# Altium schematic symbol library WE-FLEX.SchLib: 25 symbols
Pins are listed as number, name and electrical type; pins without a type are passive.

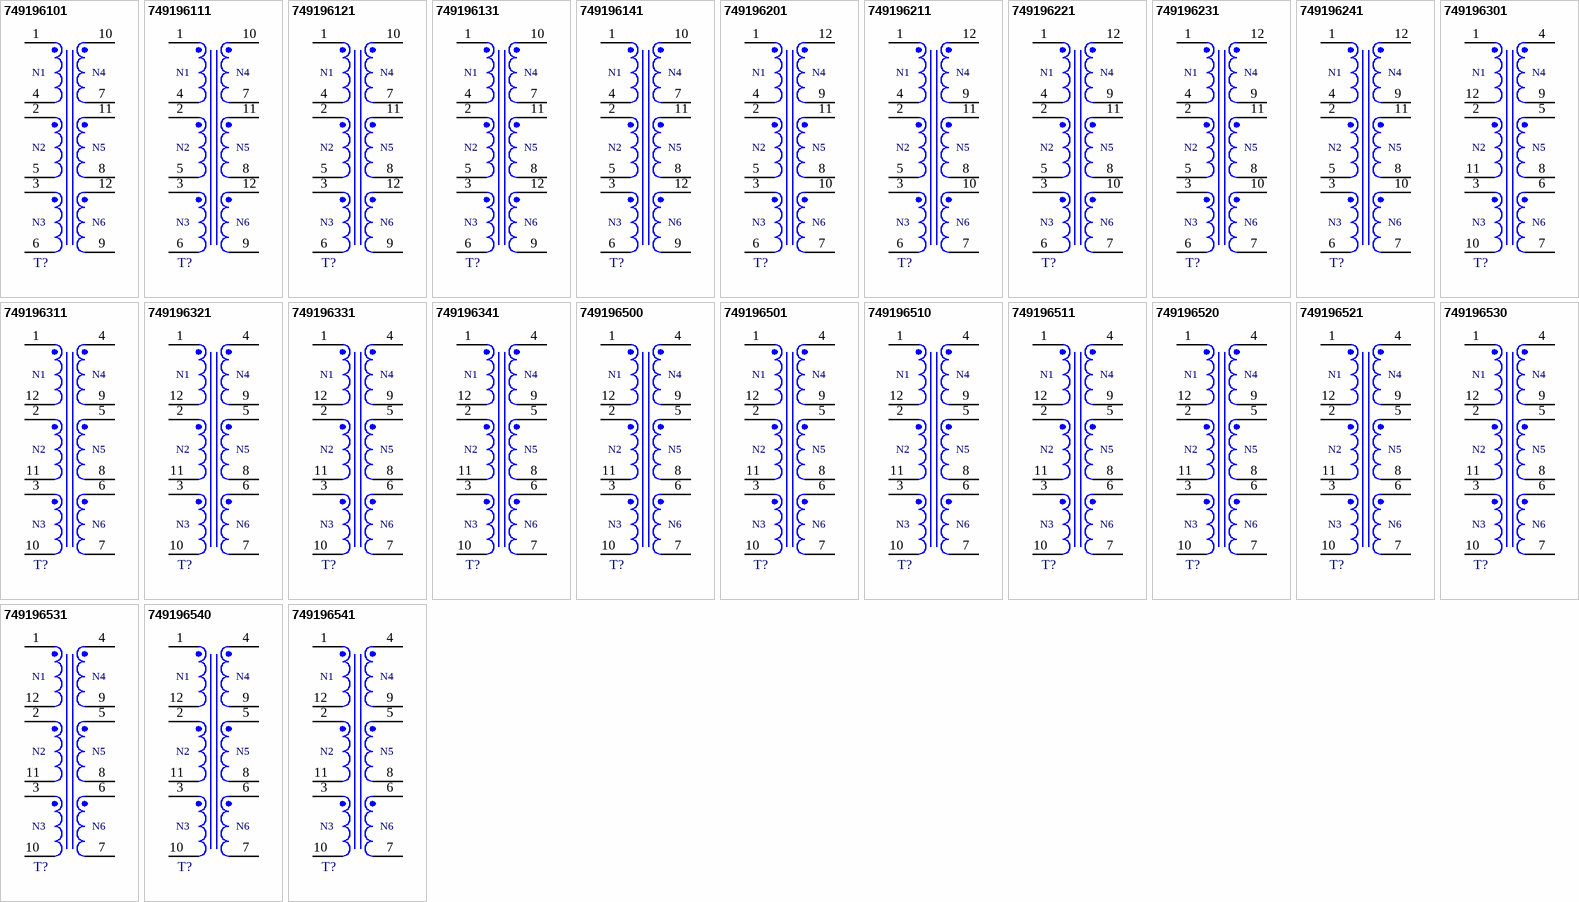
[diagram p0: symbols 749196101 to 749196541]

## 749196101
designator T?, comment 198.6uH, 0.55A  (value not drawn)
WE-FLEX SMT Flexible Transformer for DC/DC Converter, ER11/5, 198.6uH, 0.55A; Manufacturer Part Number: 749196101; Manufacturer: Wurth Elektronik; DC Resistance Base: 344mOhm; Insulation Test Voltage: 500VAC; Leakage Inductance Base: 1.2uH; Saturation Current Base: 0.01A; Turns Ratio: 1:1:1:1:1:1; Type: ungapped; Voltage-µSecond Base: 32.9uVs; Category: Flexible Transformers For SMPS; Match Code: WE-FLEX; ComponentLink1Description: Website Link; ComponentLink1URL: https://www.we-online.com/redexpert/article/749196101?ad; ComponentLink2Description: Datasheet Link; ComponentLink2URL: https://www.we-online.com/redexpert/spec/749196101?ad; Mount: Surface Mount; Operating Temperature Max: 125°C; Operating Temperature Min: -40°C; Packaging: Tape and Reel; Case/Size Code: ER11/5; Length: 12.9mm; Width: 9.2mm; Height: 6.2mm; Inductance Base: 198.6uH; Rated Current Base: 0.55A
footprint WE-FLEX_ER11/5
pins: 1, 2, 3, 4, 5, 6, 7, 8, 9, 10, 11, 12
text: N1; N4; N2; N5; N3; N6

## 749196111
designator T?, comment 27.4uH, 0.55A  (value not drawn)
WE-FLEX SMT Flexible Transformer for DC/DC Converter, ER11/5, 27.4uH, 0.55A; Manufacturer Part Number: 749196111; Manufacturer: Wurth Elektronik; DC Resistance Base: 344mOhm; Insulation Test Voltage: 500VAC; Leakage Inductance Base: 1.2uH; Saturation Current Base: 0.22A; Turns Ratio: 1:1:1:1:1:1; Type: gapped; Voltage-µSecond Base: 32.9uVs; Category: Flexible Transformers For SMPS; Match Code: WE-FLEX; ComponentLink1Description: Website Link; ComponentLink1URL: https://www.we-online.com/redexpert/article/749196111?ad; ComponentLink2Description: Datasheet Link; ComponentLink2URL: https://www.we-online.com/redexpert/spec/749196111?ad; Mount: Surface Mount; Operating Temperature Max: 125°C; Operating Temperature Min: -40°C; Packaging: Tape and Reel; Case/Size Code: ER11/5; Length: 12.9mm; Width: 9.2mm; Height: 6.2mm; Inductance Base: 27.4uH; Rated Current Base: 0.55A
footprint WE-FLEX_ER11/5
pins: 1, 2, 3, 4, 5, 6, 7, 8, 9, 10, 11, 12
text: N1; N4; N2; N5; N3; N6

## 749196121
designator T?, comment 14.7uH, 0.55A  (value not drawn)
WE-FLEX SMT Flexible Transformer for DC/DC Converter, ER11/5, 14.7uH, 0.55A; Manufacturer Part Number: 749196121; Manufacturer: Wurth Elektronik; DC Resistance Base: 344mOhm; Insulation Test Voltage: 500VAC; Leakage Inductance Base: 1.2uH; Saturation Current Base: 0.54A; Turns Ratio: 1:1:1:1:1:1; Type: gapped; Voltage-µSecond Base: 32.9uVs; Category: Flexible Transformers For SMPS; Match Code: WE-FLEX; ComponentLink1Description: Website Link; ComponentLink1URL: https://www.we-online.com/redexpert/article/749196121?ad; ComponentLink2Description: Datasheet Link; ComponentLink2URL: https://www.we-online.com/redexpert/spec/749196121?ad; Mount: Surface Mount; Operating Temperature Max: 125°C; Operating Temperature Min: -40°C; Packaging: Tape and Reel; Case/Size Code: ER11/5; Length: 12.9mm; Width: 9.2mm; Height: 6.2mm; Inductance Base: 14.7uH; Rated Current Base: 0.55A
footprint WE-FLEX_ER11/5
pins: 1, 2, 3, 4, 5, 6, 7, 8, 9, 10, 11, 12
text: N1; N4; N2; N5; N3; N6

## 749196131
designator T?, comment 10.9uH, 0.55A  (value not drawn)
WE-FLEX SMT Flexible Transformer for DC/DC Converter, ER11/5, 10.9uH, 0.55A; Manufacturer Part Number: 749196131; Manufacturer: Wurth Elektronik; DC Resistance Base: 344mOhm; Insulation Test Voltage: 500VAC; Leakage Inductance Base: 1.2uH; Saturation Current Base: 0.73A; Turns Ratio: 1:1:1:1:1:1; Type: gapped; Voltage-µSecond Base: 32.9uVs; Category: Flexible Transformers For SMPS; Match Code: WE-FLEX; ComponentLink1Description: Website Link; ComponentLink1URL: https://www.we-online.com/redexpert/article/749196131?ad; ComponentLink2Description: Datasheet Link; ComponentLink2URL: https://www.we-online.com/redexpert/spec/749196131?ad; Mount: Surface Mount; Operating Temperature Max: 125°C; Operating Temperature Min: -40°C; Packaging: Tape and Reel; Case/Size Code: ER11/5; Length: 12.9mm; Width: 9.2mm; Height: 6.2mm; Inductance Base: 10.9uH; Rated Current Base: 0.55A
footprint WE-FLEX_ER11/5
pins: 1, 2, 3, 4, 5, 6, 7, 8, 9, 10, 11, 12
text: N1; N4; N2; N5; N3; N6

## 749196141
designator T?, comment 8.5uH, 0.55A  (value not drawn)
WE-FLEX SMT Flexible Transformer for DC/DC Converter, ER11/5, 8.5uH, 0.55A; Manufacturer Part Number: 749196141; Manufacturer: Wurth Elektronik; DC Resistance Base: 344mOhm; Insulation Test Voltage: 500VAC; Leakage Inductance Base: 1.2uH; Saturation Current Base: 0.96A; Turns Ratio: 1:1:1:1:1:1; Type: gapped; Voltage-µSecond Base: 32.9uVs; Category: Flexible Transformers For SMPS; Match Code: WE-FLEX; ComponentLink1Description: Website Link; ComponentLink1URL: https://www.we-online.com/redexpert/article/749196141?ad; ComponentLink2Description: Datasheet Link; ComponentLink2URL: https://www.we-online.com/redexpert/spec/749196141?ad; Mount: Surface Mount; Operating Temperature Max: 125°C; Operating Temperature Min: -40°C; Packaging: Tape and Reel; Case/Size Code: ER11/5; Length: 12.9mm; Width: 9.2mm; Height: 6.2mm; Inductance Base: 8.5uH; Rated Current Base: 0.55A
footprint WE-FLEX_ER11/5
pins: 1, 2, 3, 4, 5, 6, 7, 8, 9, 10, 11, 12
text: N1; N4; N2; N5; N3; N6

## 749196201
designator T?, comment 140uH, 0.95A  (value not drawn)
WE-FLEX SMT Flexible Transformer for DC/DC Converter, ER14.5/6, 140uH, 0.95A; Manufacturer Part Number: 749196201; Manufacturer: Wurth Elektronik; DC Resistance Base: 159mOhm; Insulation Test Voltage: 500VAC; Leakage Inductance Base: 1.2uH; Saturation Current Base: 0.02A; Turns Ratio: 1:1:1:1:1:1; Type: ungapped; Voltage-µSecond Base: 48.3uVs; Category: Flexible Transformers For SMPS; Match Code: WE-FLEX; ComponentLink1Description: Website Link; ComponentLink1URL: https://www.we-online.com/redexpert/article/749196201?ad; ComponentLink2Description: Datasheet Link; ComponentLink2URL: https://www.we-online.com/redexpert/spec/749196201?ad; Mount: Surface Mount; Operating Temperature Max: 125°C; Operating Temperature Min: -40°C; Packaging: Tape and Reel; Case/Size Code: ER14.5/6; Length: 16.3mm; Width: 12mm; Height: 7.4mm; Inductance Base: 140uH; Rated Current Base: 0.95A
footprint WE-FLEX_ER14.5/6
pins: 1, 2, 3, 4, 5, 6, 7, 8, 9, 10, 11, 12
text: N1; N4; N2; N5; N3; N6

## 749196211
designator T?, comment 21.6uH, 0.95A  (value not drawn)
WE-FLEX SMT Flexible Transformer for DC/DC Converter, ER14.5/6, 21.6uH, 0.95A; Manufacturer Part Number: 749196211; Manufacturer: Wurth Elektronik; DC Resistance Base: 159mOhm; Insulation Test Voltage: 500VAC; Leakage Inductance Base: 1.2uH; Saturation Current Base: 0.36A; Turns Ratio: 1:1:1:1:1:1; Type: gapped; Voltage-µSecond Base: 48.3uVs; Category: Flexible Transformers For SMPS; Match Code: WE-FLEX; ComponentLink1Description: Website Link; ComponentLink1URL: https://www.we-online.com/redexpert/article/749196211?ad; ComponentLink2Description: Datasheet Link; ComponentLink2URL: https://www.we-online.com/redexpert/spec/749196211?ad; Mount: Surface Mount; Operating Temperature Max: 125°C; Operating Temperature Min: -40°C; Packaging: Tape and Reel; Case/Size Code: ER14.5/6; Length: 16.3mm; Width: 12mm; Height: 7.4mm; Inductance Base: 21.6uH; Rated Current Base: 0.95A
footprint WE-FLEX_ER14.5/6
pins: 1, 2, 3, 4, 5, 6, 7, 8, 9, 10, 11, 12
text: N1; N4; N2; N5; N3; N6

## 749196221
designator T?, comment 11.6uH, 0.95A  (value not drawn)
WE-FLEX SMT Flexible Transformer for DC/DC Converter, ER14.5/6, 11.6uH, 0.95A; Manufacturer Part Number: 749196221; Manufacturer: Wurth Elektronik; DC Resistance Base: 159mOhm; Insulation Test Voltage: 500VAC; Leakage Inductance Base: 1.2uH; Saturation Current Base: 0.84A; Turns Ratio: 1:1:1:1:1:1; Type: gapped; Voltage-µSecond Base: 48.3uVs; Category: Flexible Transformers For SMPS; Match Code: WE-FLEX; ComponentLink1Description: Website Link; ComponentLink1URL: https://www.we-online.com/redexpert/article/749196221?ad; ComponentLink2Description: Datasheet Link; ComponentLink2URL: https://www.we-online.com/redexpert/spec/749196221?ad; Mount: Surface Mount; Operating Temperature Max: 125°C; Operating Temperature Min: -40°C; Packaging: Tape and Reel; Case/Size Code: ER14.5/6; Length: 16.3mm; Width: 12mm; Height: 7.4mm; Inductance Base: 11.6uH; Rated Current Base: 0.95A
footprint WE-FLEX_ER14.5/6
pins: 1, 2, 3, 4, 5, 6, 7, 8, 9, 10, 11, 12
text: N1; N4; N2; N5; N3; N6

## 749196231
designator T?, comment 8.3uH, 0.95A  (value not drawn)
WE-FLEX SMT Flexible Transformer for DC/DC Converter, ER14.5/6, 8.3uH, 0.95A; Manufacturer Part Number: 749196231; Manufacturer: Wurth Elektronik; DC Resistance Base: 159mOhm; Insulation Test Voltage: 500VAC; Leakage Inductance Base: 1.2uH; Saturation Current Base: 1.2A; Turns Ratio: 1:1:1:1:1:1; Type: gapped; Voltage-µSecond Base: 48.3uVs; Category: Flexible Transformers For SMPS; Match Code: WE-FLEX; ComponentLink1Description: Website Link; ComponentLink1URL: https://www.we-online.com/redexpert/article/749196231?ad; ComponentLink2Description: Datasheet Link; ComponentLink2URL: https://www.we-online.com/redexpert/spec/749196231?ad; Mount: Surface Mount; Operating Temperature Max: 125°C; Operating Temperature Min: -40°C; Packaging: Tape and Reel; Case/Size Code: ER14.5/6; Length: 16.3mm; Width: 12mm; Height: 7.4mm; Inductance Base: 8.3uH; Rated Current Base: 0.95A
footprint WE-FLEX_ER14.5/6
pins: 1, 2, 3, 4, 5, 6, 7, 8, 9, 10, 11, 12
text: N1; N4; N2; N5; N3; N6

## 749196241
designator T?, comment 6.6uH, 0.95A  (value not drawn)
WE-FLEX SMT Flexible Transformer for DC/DC Converter, ER14.5/6, 6.6uH, 0.95A; Manufacturer Part Number: 749196241; Manufacturer: Wurth Elektronik; DC Resistance Base: 159mOhm; Insulation Test Voltage: 500VAC; Leakage Inductance Base: 1.2uH; Saturation Current Base: 1.55A; Turns Ratio: 1:1:1:1:1:1; Type: gapped; Voltage-µSecond Base: 48.3uVs; Category: Flexible Transformers For SMPS; Match Code: WE-FLEX; ComponentLink1Description: Website Link; ComponentLink1URL: https://www.we-online.com/redexpert/article/749196241?ad; ComponentLink2Description: Datasheet Link; ComponentLink2URL: https://www.we-online.com/redexpert/spec/749196241?ad; Mount: Surface Mount; Operating Temperature Max: 125°C; Operating Temperature Min: -40°C; Packaging: Tape and Reel; Case/Size Code: ER14.5/6; Length: 16.3mm; Width: 12mm; Height: 7.4mm; Inductance Base: 6.6uH; Rated Current Base: 0.95A
footprint WE-FLEX_ER14.5/6
pins: 1, 2, 3, 4, 5, 6, 7, 8, 9, 10, 11, 12
text: N1; N4; N2; N5; N3; N6

## 749196301
designator T?, comment 153.8uH, 0.97A  (value not drawn)
WE-FLEX SMT Flexible Transformer for DC/DC Converter, EFD15, 153.8uH, 0.97A; Manufacturer Part Number: 749196301; Manufacturer: Wurth Elektronik; DC Resistance Base: 140mOhm; Insulation Test Voltage: 500VAC; Leakage Inductance Base: 0.13uH; Saturation Current Base: 0.02A; Turns Ratio: 1:1:1:1:1:1; Type: ungapped; Voltage-µSecond Base: 39.8uVs; Category: Flexible Transformers For SMPS; Match Code: WE-FLEX; ComponentLink1Description: Website Link; ComponentLink1URL: https://www.we-online.com/redexpert/article/749196301?ad; ComponentLink2Description: Datasheet Link; ComponentLink2URL: https://www.we-online.com/redexpert/spec/749196301?ad; Mount: Surface Mount; Operating Temperature Max: 125°C; Operating Temperature Min: -40°C; Packaging: Tape and Reel; Case/Size Code: EFD15; Length: 17.5mm; Width: 16mm; Height: 8.3mm; Inductance Base: 153.8uH; Rated Current Base: 0.97A
footprint WE-FLEX_EFD15
pins: 1, 2, 3, 4, 5, 6, 7, 8, 9, 10, 11, 12
text: N1; N4; N2; N5; N3; N6

## 749196311
designator T?, comment 23.3uH, 0.97A  (value not drawn)
WE-FLEX SMT Flexible Transformer for DC/DC Converter, EFD15, 23.3uH, 0.97A; Manufacturer Part Number: 749196311; Manufacturer: Wurth Elektronik; DC Resistance Base: 140mOhm; Insulation Test Voltage: 500VAC; Leakage Inductance Base: 0.13uH; Saturation Current Base: 0.33A; Turns Ratio: 1:1:1:1:1:1; Type: gapped; Voltage-µSecond Base: 39.8uVs; Category: Flexible Transformers For SMPS; Match Code: WE-FLEX; ComponentLink1Description: Website Link; ComponentLink1URL: https://www.we-online.com/redexpert/article/749196311?ad; ComponentLink2Description: Datasheet Link; ComponentLink2URL: https://www.we-online.com/redexpert/spec/749196311?ad; Mount: Surface Mount; Operating Temperature Max: 125°C; Operating Temperature Min: -40°C; Packaging: Tape and Reel; Case/Size Code: EFD15; Length: 17.5mm; Width: 16mm; Height: 8.3mm; Inductance Base: 23.3uH; Rated Current Base: 0.97A
footprint WE-FLEX_EFD15
pins: 1, 2, 3, 4, 5, 6, 7, 8, 9, 10, 11, 12
text: N1; N4; N2; N5; N3; N6

## 749196321
designator T?, comment 14.2uH, 0.97A  (value not drawn)
WE-FLEX SMT Flexible Transformer for DC/DC Converter, EFD15, 14.2uH, 0.97A; Manufacturer Part Number: 749196321; Manufacturer: Wurth Elektronik; DC Resistance Base: 140mOhm; Insulation Test Voltage: 500VAC; Leakage Inductance Base: 0.13uH; Saturation Current Base: 0.63A; Turns Ratio: 1:1:1:1:1:1; Type: gapped; Voltage-µSecond Base: 39.8uVs; Category: Flexible Transformers For SMPS; Match Code: WE-FLEX; ComponentLink1Description: Website Link; ComponentLink1URL: https://www.we-online.com/redexpert/article/749196321?ad; ComponentLink2Description: Datasheet Link; ComponentLink2URL: https://www.we-online.com/redexpert/spec/749196321?ad; Mount: Surface Mount; Operating Temperature Max: 125°C; Operating Temperature Min: -40°C; Packaging: Tape and Reel; Case/Size Code: EFD15; Length: 17.5mm; Width: 16mm; Height: 8.3mm; Inductance Base: 14.2uH; Rated Current Base: 0.97A
footprint WE-FLEX_EFD15
pins: 1, 2, 3, 4, 5, 6, 7, 8, 9, 10, 11, 12
text: N1; N4; N2; N5; N3; N6

## 749196331
designator T?, comment 9.3uH, 0.97A  (value not drawn)
WE-FLEX SMT Flexible Transformer for DC/DC Converter, EFD15, 9.3uH, 0.97A; Manufacturer Part Number: 749196331; Manufacturer: Wurth Elektronik; DC Resistance Base: 140mOhm; Insulation Test Voltage: 500VAC; Leakage Inductance Base: 0.13uH; Saturation Current Base: 1.09A; Turns Ratio: 1:1:1:1:1:1; Type: gapped; Voltage-µSecond Base: 39.8uVs; Category: Flexible Transformers For SMPS; Match Code: WE-FLEX; ComponentLink1Description: Website Link; ComponentLink1URL: https://www.we-online.com/redexpert/article/749196331?ad; ComponentLink2Description: Datasheet Link; ComponentLink2URL: https://www.we-online.com/redexpert/spec/749196331?ad; Mount: Surface Mount; Operating Temperature Max: 125°C; Operating Temperature Min: -40°C; Packaging: Tape and Reel; Case/Size Code: EFD15; Length: 17.5mm; Width: 16mm; Height: 8.3mm; Inductance Base: 9.3uH; Rated Current Base: 0.97A
footprint WE-FLEX_EFD15
pins: 1, 2, 3, 4, 5, 6, 7, 8, 9, 10, 11, 12
text: N1; N4; N2; N5; N3; N6

## 749196341
designator T?, comment 7.9uH, 0.97A  (value not drawn)
WE-FLEX SMT Flexible Transformer for DC/DC Converter, EFD15, 7.9uH, 0.97A; Manufacturer Part Number: 749196341; Manufacturer: Wurth Elektronik; DC Resistance Base: 140mOhm; Insulation Test Voltage: 500VAC; Leakage Inductance Base: 0.13uH; Saturation Current Base: 1.33A; Turns Ratio: 1:1:1:1:1:1; Type: gapped; Voltage-µSecond Base: 39.8uVs; Category: Flexible Transformers For SMPS; Match Code: WE-FLEX; ComponentLink1Description: Website Link; ComponentLink1URL: https://www.we-online.com/redexpert/article/749196341?ad; ComponentLink2Description: Datasheet Link; ComponentLink2URL: https://www.we-online.com/redexpert/spec/749196341?ad; Mount: Surface Mount; Operating Temperature Max: 125°C; Operating Temperature Min: -40°C; Packaging: Tape and Reel; Case/Size Code: EFD15; Length: 17.5mm; Width: 16mm; Height: 8.3mm; Inductance Base: 7.9uH; Rated Current Base: 0.97A
footprint WE-FLEX_EFD15
pins: 1, 2, 3, 4, 5, 6, 7, 8, 9, 10, 11, 12
text: N1; N4; N2; N5; N3; N6

## 749196500
designator T?, comment 87.1uH, 1.91A  (value not drawn)
WE-FLEX SMT Flexible Transformer for DC/DC Converter, EFD20, 87.1uH, 1.91A; Manufacturer Part Number: 749196500; Manufacturer: Wurth Elektronik; DC Resistance Base: 30mOhm; Insulation Test Voltage: 500VAC; Leakage Inductance Base: 0.18uH; Saturation Current Base: 0.03A; Turns Ratio: 1:1:1:1:1:1; Type: ungapped; Voltage-µSecond Base: 65.6uVs; Category: Flexible Transformers For SMPS; Match Code: WE-FLEX; ComponentLink1Description: Website Link; ComponentLink1URL: https://www.we-online.com/redexpert/article/749196500?ad; ComponentLink2Description: Datasheet Link; ComponentLink2URL: https://www.we-online.com/redexpert/spec/749196500?ad; Mount: Surface Mount; Operating Temperature Max: 125°C; Operating Temperature Min: -40°C; Packaging: Tape and Reel; Case/Size Code: EFD20; Length: 21mm; Width: 21mm; Height: 10.8mm; Inductance Base: 87.1uH; Rated Current Base: 1.91A
footprint WE-FLEX_EFD20
pins: 1, 2, 3, 4, 5, 6, 7, 8, 9, 10, 11, 12
text: N1; N4; N2; N5; N3; N6

## 749196501
designator T?, comment 196uH, 1.7A  (value not drawn)
WE-FLEX SMT Flexible Transformer for DC/DC Converter, EFD20, 196uH, 1.7A; Manufacturer Part Number: 749196501; Manufacturer: Wurth Elektronik; DC Resistance Base: 71.1mOhm; Insulation Test Voltage: 500VAC; Leakage Inductance Base: 0.24uH; Saturation Current Base: 0.02A; Turns Ratio: 1:1:1:1:1:1; Type: ungapped; Voltage-µSecond Base: 98.4uVs; Category: Flexible Transformers For SMPS; Match Code: WE-FLEX; ComponentLink1Description: Website Link; ComponentLink1URL: https://www.we-online.com/redexpert/article/749196501?ad; ComponentLink2Description: Datasheet Link; ComponentLink2URL: https://www.we-online.com/redexpert/spec/749196501?ad; Mount: Surface Mount; Operating Temperature Max: 125°C; Operating Temperature Min: -40°C; Packaging: Tape and Reel; Case/Size Code: EFD20; Length: 21mm; Width: 21mm; Height: 10.8mm; Inductance Base: 196uH; Rated Current Base: 1.7A
footprint WE-FLEX_EFD20
pins: 1, 2, 3, 4, 5, 6, 7, 8, 9, 10, 11, 12
text: N1; N4; N2; N5; N3; N6

## 749196510
designator T?, comment 9.9uH, 1.91A  (value not drawn)
WE-FLEX SMT Flexible Transformer for DC/DC Converter, EFD20, 9.9uH, 1.91A; Manufacturer Part Number: 749196510; Manufacturer: Wurth Elektronik; DC Resistance Base: 30mOhm; Insulation Test Voltage: 500VAC; Leakage Inductance Base: 0.18uH; Saturation Current Base: 1.17A; Turns Ratio: 1:1:1:1:1:1; Type: gapped; Voltage-µSecond Base: 65.6uVs; Category: Flexible Transformers For SMPS; Match Code: WE-FLEX; ComponentLink1Description: Website Link; ComponentLink1URL: https://www.we-online.com/redexpert/article/749196510?ad; ComponentLink2Description: Datasheet Link; ComponentLink2URL: https://www.we-online.com/redexpert/spec/749196510?ad; Mount: Surface Mount; Operating Temperature Max: 125°C; Operating Temperature Min: -40°C; Packaging: Tape and Reel; Case/Size Code: EFD20; Length: 21mm; Width: 21mm; Height: 10.8mm; Inductance Base: 9.9uH; Rated Current Base: 1.91A
footprint WE-FLEX_EFD20
pins: 1, 2, 3, 4, 5, 6, 7, 8, 9, 10, 11, 12
text: N1; N4; N2; N5; N3; N6

## 749196511
designator T?, comment 22.3uH, 1.7A  (value not drawn)
WE-FLEX SMT Flexible Transformer for DC/DC Converter, EFD20, 22.3uH, 1.7A; Manufacturer Part Number: 749196511; Manufacturer: Wurth Elektronik; DC Resistance Base: 71.1mOhm; Insulation Test Voltage: 500VAC; Leakage Inductance Base: 0.24uH; Saturation Current Base: 0.49A; Turns Ratio: 1:1:1:1:1:1; Type: gapped; Voltage-µSecond Base: 98.4uVs; Category: Flexible Transformers For SMPS; Match Code: WE-FLEX; ComponentLink1Description: Website Link; ComponentLink1URL: https://www.we-online.com/redexpert/article/749196511?ad; ComponentLink2Description: Datasheet Link; ComponentLink2URL: https://www.we-online.com/redexpert/spec/749196511?ad; Mount: Surface Mount; Operating Temperature Max: 125°C; Operating Temperature Min: -40°C; Packaging: Tape and Reel; Case/Size Code: EFD20; Length: 21mm; Width: 21mm; Height: 10.8mm; Inductance Base: 22.3uH; Rated Current Base: 1.7A
footprint WE-FLEX_EFD20
pins: 1, 2, 3, 4, 5, 6, 7, 8, 9, 10, 11, 12
text: N1; N4; N2; N5; N3; N6

## 749196520
designator T?, comment 5.3uH, 1.91A  (value not drawn)
WE-FLEX SMT Flexible Transformer for DC/DC Converter, EFD20, 5.3uH, 1.91A; Manufacturer Part Number: 749196520; Manufacturer: Wurth Elektronik; DC Resistance Base: 30mOhm; Insulation Test Voltage: 500VAC; Leakage Inductance Base: 0.18uH; Saturation Current Base: 2.53A; Turns Ratio: 1:1:1:1:1:1; Type: gapped; Voltage-µSecond Base: 65.6uVs; Category: Flexible Transformers For SMPS; Match Code: WE-FLEX; ComponentLink1Description: Website Link; ComponentLink1URL: https://www.we-online.com/redexpert/article/749196520?ad; ComponentLink2Description: Datasheet Link; ComponentLink2URL: https://www.we-online.com/redexpert/spec/749196520?ad; Mount: Surface Mount; Operating Temperature Max: 125°C; Operating Temperature Min: -40°C; Packaging: Tape and Reel; Case/Size Code: EFD20; Length: 21mm; Width: 21mm; Height: 10.8mm; Inductance Base: 5.3uH; Rated Current Base: 1.91A
footprint WE-FLEX_EFD20
pins: 1, 2, 3, 4, 5, 6, 7, 8, 9, 10, 11, 12
text: N1; N4; N2; N5; N3; N6

## 749196521
designator T?, comment 12uH, 1.7A  (value not drawn)
WE-FLEX SMT Flexible Transformer for DC/DC Converter, EFD20, 12uH, 1.7A; Manufacturer Part Number: 749196521; Manufacturer: Wurth Elektronik; DC Resistance Base: 71.1mOhm; Insulation Test Voltage: 500VAC; Leakage Inductance Base: 0.24uH; Saturation Current Base: 1.73A; Turns Ratio: 1:1:1:1:1:1; Type: gapped; Voltage-µSecond Base: 98.4uVs; Category: Flexible Transformers For SMPS; Match Code: WE-FLEX; ComponentLink1Description: Website Link; ComponentLink1URL: https://www.we-online.com/redexpert/article/749196521?ad; ComponentLink2Description: Datasheet Link; ComponentLink2URL: https://www.we-online.com/redexpert/spec/749196521?ad; Mount: Surface Mount; Operating Temperature Max: 125°C; Operating Temperature Min: -40°C; Packaging: Tape and Reel; Case/Size Code: EFD20; Length: 21mm; Width: 21mm; Height: 10.8mm; Inductance Base: 12uH; Rated Current Base: 1.7A
footprint WE-FLEX_EFD20
pins: 1, 2, 3, 4, 5, 6, 7, 8, 9, 10, 11, 12
text: N1; N4; N2; N5; N3; N6

## 749196530
designator T?, comment 4.3uH, 1.91A  (value not drawn)
WE-FLEX SMT Flexible Transformer for DC/DC Converter, EFD20, 4.3uH, 1.91A; Manufacturer Part Number: 749196530; Manufacturer: Wurth Elektronik; DC Resistance Base: 30mOhm; Insulation Test Voltage: 500VAC; Leakage Inductance Base: 0.18uH; Saturation Current Base: 2.91A; Turns Ratio: 1:1:1:1:1:1; Type: gapped; Voltage-µSecond Base: 65.6uVs; Category: Flexible Transformers For SMPS; Match Code: WE-FLEX; ComponentLink1Description: Website Link; ComponentLink1URL: https://www.we-online.com/redexpert/article/749196530?ad; ComponentLink2Description: Datasheet Link; ComponentLink2URL: https://www.we-online.com/redexpert/spec/749196530?ad; Mount: Surface Mount; Operating Temperature Max: 125°C; Operating Temperature Min: -40°C; Packaging: Tape and Reel; Case/Size Code: EFD20; Length: 21mm; Width: 21mm; Height: 10.8mm; Inductance Base: 4.3uH; Rated Current Base: 1.91A
footprint WE-FLEX_EFD20
pins: 1, 2, 3, 4, 5, 6, 7, 8, 9, 10, 11, 12
text: N1; N4; N2; N5; N3; N6

## 749196531
designator T?, comment 9.7uH, 1.7A  (value not drawn)
WE-FLEX SMT Flexible Transformer for DC/DC Converter, EFD20, 9.7uH, 1.7A; Manufacturer Part Number: 749196531; Manufacturer: Wurth Elektronik; DC Resistance Base: 71.1mOhm; Insulation Test Voltage: 500VAC; Leakage Inductance Base: 0.24uH; Saturation Current Base: 2.2A; Turns Ratio: 1:1:1:1:1:1; Type: gapped; Voltage-µSecond Base: 98.4uVs; Category: Flexible Transformers For SMPS; Match Code: WE-FLEX; ComponentLink1Description: Website Link; ComponentLink1URL: https://www.we-online.com/redexpert/article/749196531?ad; ComponentLink2Description: Datasheet Link; ComponentLink2URL: https://www.we-online.com/redexpert/spec/749196531?ad; Mount: Surface Mount; Operating Temperature Max: 125°C; Operating Temperature Min: -40°C; Packaging: Tape and Reel; Case/Size Code: EFD20; Length: 21mm; Width: 21mm; Height: 10.8mm; Inductance Base: 9.7uH; Rated Current Base: 1.7A
footprint WE-FLEX_EFD20
pins: 1, 2, 3, 4, 5, 6, 7, 8, 9, 10, 11, 12
text: N1; N4; N2; N5; N3; N6

## 749196540
designator T?, comment 3.4uH, 1.91A  (value not drawn)
WE-FLEX SMT Flexible Transformer for DC/DC Converter, EFD20, 3.4uH, 1.91A; Manufacturer Part Number: 749196540; Manufacturer: Wurth Elektronik; DC Resistance Base: 30mOhm; Insulation Test Voltage: 500VAC; Leakage Inductance Base: 0.18uH; Saturation Current Base: 4.18A; Turns Ratio: 1:1:1:1:1:1; Type: gapped; Voltage-µSecond Base: 65.6uVs; Category: Flexible Transformers For SMPS; Match Code: WE-FLEX; ComponentLink1Description: Website Link; ComponentLink1URL: https://www.we-online.com/redexpert/article/749196540?ad; ComponentLink2Description: Datasheet Link; ComponentLink2URL: https://www.we-online.com/redexpert/spec/749196540?ad; Mount: Surface Mount; Operating Temperature Max: 125°C; Operating Temperature Min: -40°C; Packaging: Tape and Reel; Case/Size Code: EFD20; Length: 21mm; Width: 21mm; Height: 10.8mm; Inductance Base: 3.4uH; Rated Current Base: 1.91A
footprint WE-FLEX_EFD20
pins: 1, 2, 3, 4, 5, 6, 7, 8, 9, 10, 11, 12
text: N1; N4; N2; N5; N3; N6

## 749196541
designator T?, comment 7.6uH, 1.7A  (value not drawn)
WE-FLEX SMT Flexible Transformer for DC/DC Converter, EFD20, 7.6uH, 1.7A; Manufacturer Part Number: 749196541; Manufacturer: Wurth Elektronik; DC Resistance Base: 71.1mOhm; Insulation Test Voltage: 500VAC; Leakage Inductance Base: 0.24uH; Saturation Current Base: 2.46A; Turns Ratio: 1:1:1:1:1:1; Type: gapped; Voltage-µSecond Base: 98.4uVs; Category: Flexible Transformers For SMPS; Match Code: WE-FLEX; ComponentLink1Description: Website Link; ComponentLink1URL: https://www.we-online.com/redexpert/article/749196541?ad; ComponentLink2Description: Datasheet Link; ComponentLink2URL: https://www.we-online.com/redexpert/spec/749196541?ad; Mount: Surface Mount; Operating Temperature Max: 125°C; Operating Temperature Min: -40°C; Packaging: Tape and Reel; Case/Size Code: EFD20; Length: 21mm; Width: 21mm; Height: 10.8mm; Inductance Base: 7.6uH; Rated Current Base: 1.7A
footprint WE-FLEX_EFD20
pins: 1, 2, 3, 4, 5, 6, 7, 8, 9, 10, 11, 12
text: N1; N4; N2; N5; N3; N6